# EAGLE library part LTC4412ES6#TRPBF (library SamacSys_Parts)
Low Loss PowerPath?? Controller in ThinSOT Source: Datasheet <https://www.analog.com/LTC4412/datasheet>
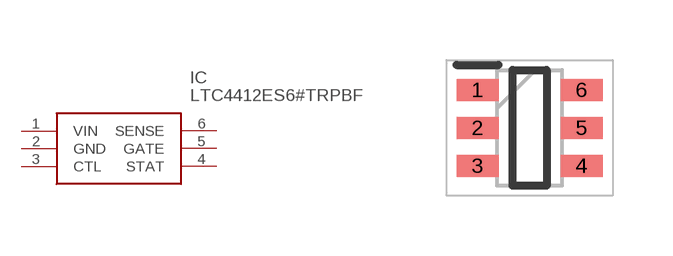
[diagram p44: symbol with the pads of SOT95P280X100-6N; footprint SOT95P280X100-6N]

Designator prefix IC

## LTC4412ES6#TRPBF (DESCRIPTION: Low Loss PowerPath?? Controller in ThinSOT; HEIGHT: 1mm; MANUFACTURER_NAME: Analog Devices; MANUFACTURER_PART_NUMBER: LTC4412ES6#TRPBF; MOUSER_PART_NUMBER: 584-LTC4412ES6#TRPBF; MOUSER_PRICE-STOCK: https://www.mouser.co.uk/ProductDetail/Analog-Devices/LTC4412ES6TRPBF?qs=hVkxg5c3xu%252BbBvK3A%252Bsxkw%3D%3D)  [SOT95P280X100-6N]
1  VIN
2  GND
3  CTL
4  STAT
5  GATE
6  SENSE

## Footprint SOT95P280X100-6N (pad centres in mm)
S6 Package 6-Lead Plastic TSOT-23
smd 1.05 x 0.55: 1 -1.3,0.95; 2 -1.3,0; 3 -1.3,-0.95; 4 1.3,-0.95; 5 1.3,0; 6 1.3,0.95